# Altium footprint library PCB - CRYSTALS - TAITIEN TZ 2.0x1.6MM.PCBLIB: 1 footprints
Each footprint in its own frame and in the unit in brackets; x right, y up, seen from the top. Pads: shape width x height; smd on the part's side, far side on the other; paste and mask are expansions set on the pad; w line width, h text height; cw(c..) or ccw(c..) is an arc to the next point about the centre after c.
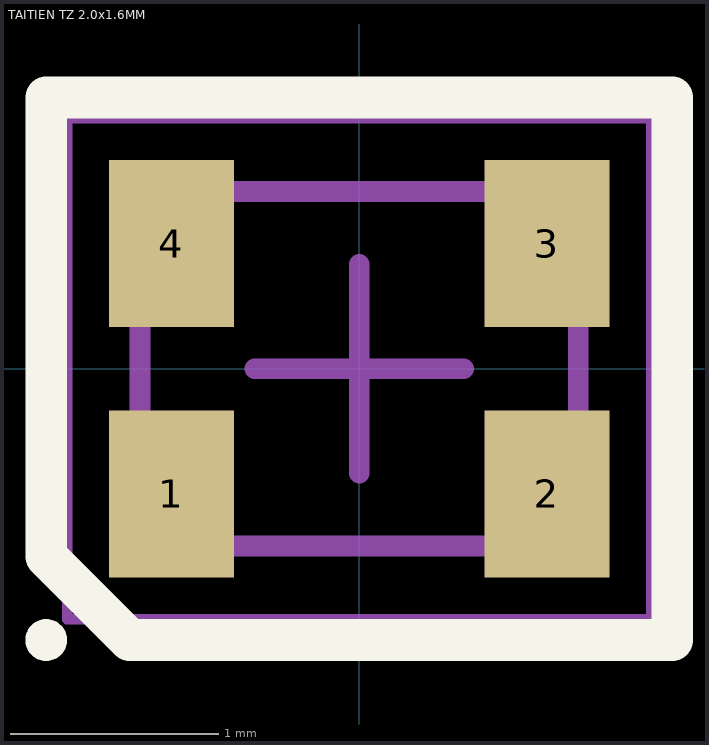
[diagram p0: the footprint, top view; thin cyan lines are the x and y axes]

## TAITIEN TZ 2.0x1.6MM [mm] "Crystal, 4-Leads, Body 1.60x2.00mm, Pitch 1.40mm, IPC Medium Density"
height 0.7
pads (4):
  rect 0.6x0.8 smd: 1(-0.9,-0.6) 2(0.9,-0.6) 3(0.9,0.6) 4(-0.9,0.6)
Top Overlay:
  circle w0.1: c-1.5,-1.3 r0.05
  lines w0.2: -1.5,-0.9 -1.1,-1.3 1.5,-1.3 1.5,1.3 -1.5,1.3 -1.5,-0.9
Mechanical 13:
  lines w0.1: -1.05,-0.85 -1.05,0.85 1.05,0.85 1.05,-0.85 -1.05,-0.85
Mechanical 15:
  lines w0.05: -1.4,-1.2 -1.4,1.2 1.4,1.2 1.4,-1.2 -1.4,-1.2
  lines w0.1: -0.5,0 0.5,0 ; 0,-0.5 0,0.5
3D body "Taitien TZ 2.0x1.6.step": height 0.8, standoff 0, extent -1.075,-0.875 1.075,0.875